# EAGLE library part LTC3417 (library sjg-linear)
LTC3417 in power-TSSOP20 package
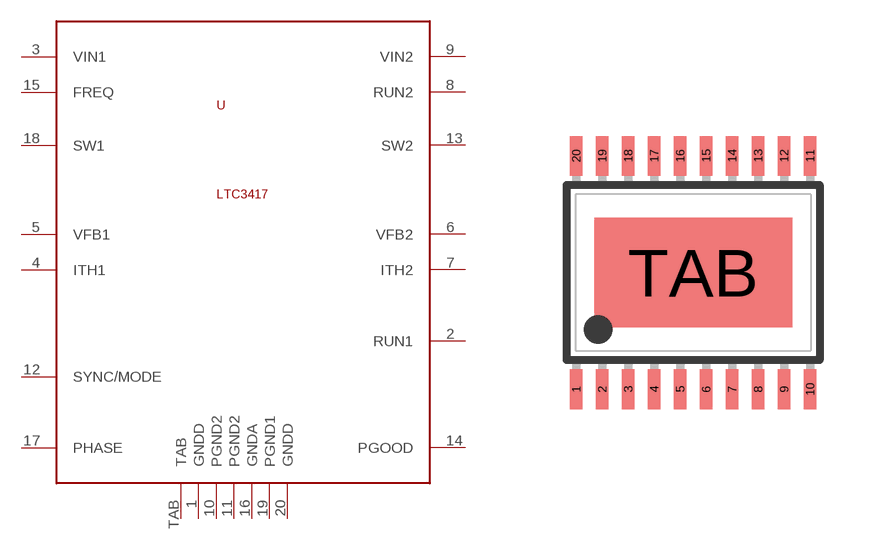
[diagram p0: symbol with the pads of TSSOP20; footprint TSSOP20]

Designator prefix -

## LTC3417  [TSSOP20]
1  GNDD
2  RUN1
3  VIN1
4  ITH1
5  VFB1
6  VFB2
7  ITH2
8  RUN2
9  VIN2
10  PGND2
11  PGND2
12  SYNC/MODE
13  SW2
14  PGOOD
15  FREQ
16  GNDA
17  PHASE
18  SW1
19  PGND1
20  GNDD
TAB  TAB

## Footprint TSSOP20 (pad centres in mm)
Thin Shrink Small Outline Plastic 20 MAX3223-MAX3243.pdf
smd 0.305 x 0.991: 1 -2.925,-2.918; 2 -2.275,-2.918; 3 -1.625,-2.918; 4 -0.975,-2.918; 5 -0.325,-2.918; 6 0.325,-2.918; 7 0.975,-2.918; 8 1.625,-2.918; 9 2.275,-2.918; 10 2.925,-2.918; 11 2.925,2.918; 12 2.275,2.918; 13 1.625,2.918; 14 0.975,2.918; 15 0.325,2.918; 16 -0.325,2.918; 17 -0.975,2.918; 18 -1.625,2.918; 19 -2.275,2.918; 20 -2.925,2.918
smd 4.953 x 2.743: TAB 0,0